# Altium footprint library Molex.PcbLib: 4 footprints
Each footprint in its own frame and in the unit in brackets; x right, y up, seen from the top. Pads: shape width x height; smd on the part's side, far side on the other; paste and mask are expansions set on the pad; w line width, h text height; cw(c..) or ccw(c..) is an arc to the next point about the centre after c.
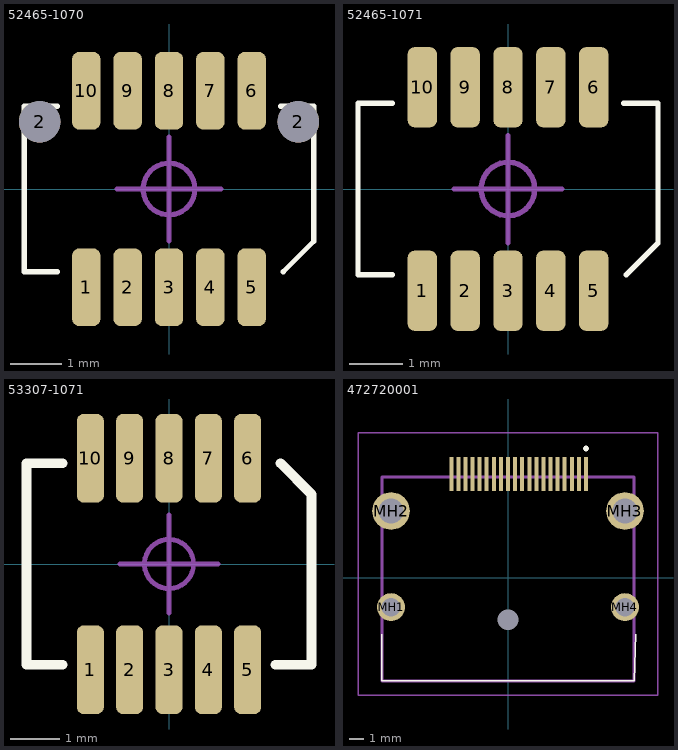
[diagram p0: the footprints below, top view; thin cyan lines are the x and y axes]

## 52465-1070 [mm]
pads (12):
  rrect50% 0.55x1.5 smd: 1(-1.6,-1.9) 2(-0.8,-1.9) 3(0,-1.9) 4(0.8,-1.9) 5(1.6,-1.9) 6(1.6,1.9) 7(0.8,1.9) 8(0,1.9) 9(-0.8,1.9) 10(-1.6,1.9)
  round 0.8 hole 0.8: 2(-2.5,1.3) 2(2.5,1.3)
Top Overlay:
  lines w0.1: -2.159,-1.6 -2.8,-1.6 -2.8,1.6 -2.159,1.6 ; 2.159,1.6 2.8,1.6 2.8,-1.01 2.21,-1.6
Mechanical 15:
  circle w0.1: c0,0 r0.5
  lines w0.1: -1,0 0,0 ; 0,-1 0,0 ; 0,1 0,0 ; 1,0 0,0
3D body "524651070.stp": height 3.55, standoff -0.51, extent -2.8,-2.1 2.8,2.1

## 52465-1071 [mm]
pads (10):
  rrect50% 0.55x1.5 smd: 1(-1.6,-1.9) 2(-0.8,-1.9) 3(0,-1.9) 4(0.8,-1.9) 5(1.6,-1.9) 6(1.6,1.9) 7(0.8,1.9) 8(0,1.9) 9(-0.8,1.9) 10(-1.6,1.9)
Top Overlay:
  lines w0.1: -2.159,-1.6 -2.8,-1.6 -2.8,1.6 -2.159,1.6 ; 2.159,1.6 2.8,1.6 2.8,-1.01 2.21,-1.6
Mechanical 15:
  circle w0.1: c0,0 r0.5
  lines w0.1: -1,0 0,0 ; 0,-1 0,0 ; 0,1 0,0 ; 1,0 0,0
3D body "524651071.stp": height 3.55, standoff 0, extent -2.8,-2.1 2.8,2.1

## 53307-1071 [mm]
pads (10):
  rrect50% 0.55x1.8 smd: 1(-1.6,-2.15) 2(-0.8,-2.15) 3(0,-2.15) 4(0.8,-2.15) 5(1.6,-2.15) 6(1.6,2.15) 7(0.8,2.15) 8(0,2.15) 9(-0.8,2.15) 10(-1.6,2.15)
Top Overlay:
  lines w0.2: -2.159,-2.05 -2.9,-2.05 -2.9,2.05 -2.159,2.05 ; 2.159,-2.05 2.9,-2.05 2.9,1.418 2.268,2.05
Mechanical 15:
  circle w0.1: c0,0 r0.5
  lines w0.1: -1,0 0,0 ; 0,-1 0,0 ; 0,1 0,0 ; 1,0 0,0
3D body "533071071.stp": height 3.65, standoff 0, extent -2.9,-2.55 2.9,2.55

## 472720001 [mm]
pads (25):
  rect 0.28x2.4 smd: 1(5.5,7.29) 2(5,7.29) 3(4.5,7.29) 4(4,7.29) 5(3.5,7.29) 6(3,7.29) 7(2.5,7.29) 8(2,7.29) 9(1.5,7.29) 10(1,7.29) 11(0.5,7.29) 12(0,7.29) 13(-0.5,7.29) 14(-1,7.29) 15(-1.5,7.29) 16(-2,7.29) 17(-2.5,7.29) 18(-3,7.29) 19(-3.5,7.29) 20(-4,7.29)
  round 1.98 hole 1.32: MH1(-8.25,-2.09) MH4(8.25,-2.09)
  round 2.655 hole 1.77: MH2(-8.25,4.69) MH3(8.25,4.69)
  round 0.725 hole 1.45 unplated: MH5(0,-2.99)
Top Overlay:
  lines w0.1: -8.895,-4 -8.895,-7.29 8.895,-7.29 9,-4
  lines w0.2: 5.5,9 cw(c5.5,9.1) 5.5,9.2 cw(c5.5,9.1) 5.5,9
Mechanical 13:
  lines w0.2: -8.895,-7.29 -8.895,7.1 8.895,7.1 8.895,-7.29 -8.895,-7.29
Mechanical 15:
  lines w0.1: -10.578,-8.29 -10.578,10.2 10.578,10.2 10.578,-8.29 -10.578,-8.29
3D body "472720001.stp": height 6.69, standoff -2.06, extent -8.895,-7.28 8.89,7.61